# Altium schematic symbol library SCH - MCU - SI LABS - SI LABS EFM32HG210F32 32-PIN QFN 6X6.SchLib: 1 symbol
Pins are listed as number, name and electrical type; pins without a type are passive.

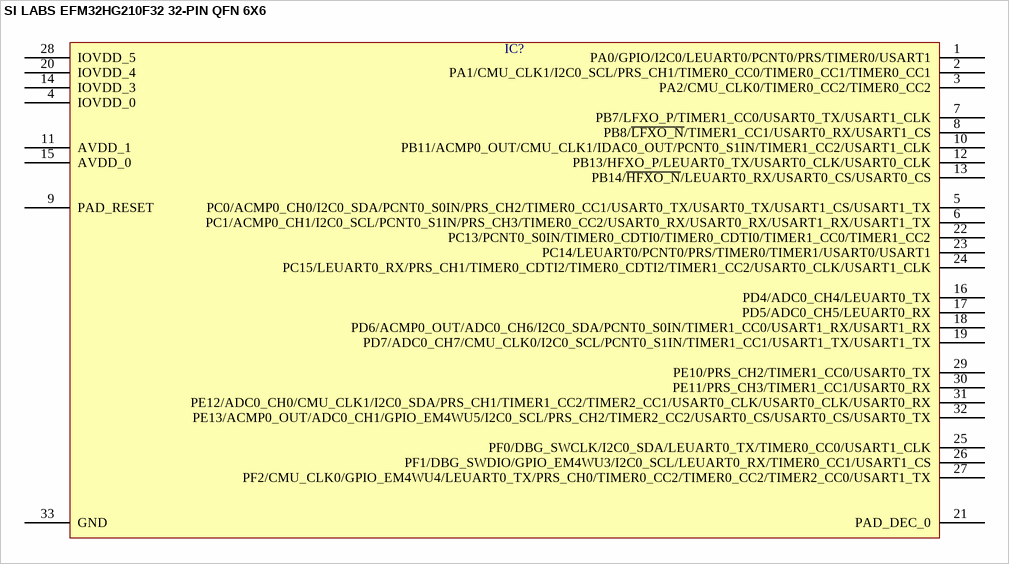
[diagram p0: symbol SI LABS EFM32HG210F32 32-PIN QFN 6X6]

## SI LABS EFM32HG210F32 32-PIN QFN 6X6
designator IC?  (value not drawn)
pins: 1 PA0/GPIO/I2C0/LEUART0/PCNT0/PRS/TIMER0/USART1, 2 PA1/CMU_CLK1/I2C0_SCL/PRS_CH1/TIMER0_CC0/TIMER0_CC1/TIMER0_CC1, 3 PA2/CMU_CLK0/TIMER0_CC2/TIMER0_CC2, 4 IOVDD_0, 5 PC0/ACMP0_CH0/I2C0_SDA/PCNT0_S0IN/PRS_CH2/TIMER0_CC1/USART0_TX/USART0_TX/USART1_CS/USART1_TX, 6 PC1/ACMP0_CH1/I2C0_SCL/PCNT0_S1IN/PRS_CH3/TIMER0_CC2/USART0_RX/USART0_RX/USART1_RX/USART1_TX, 7 PB7/LFXO_P/TIMER1_CC0/USART0_TX/USART1_CLK, 8 PB8/~{LFXO_N}/TIMER1_CC1/USART0_RX/USART1_CS, 9 PAD_RESET, 10 PB11/ACMP0_OUT/CMU_CLK1/IDAC0_OUT/PCNT0_S1IN/TIMER1_CC2/USART1_CLK, 11 AVDD_1, 12 PB13/HFXO_P/LEUART0_TX/USART0_CLK/USART0_CLK, 13 PB14/~{HFXO_N}/LEUART0_RX/USART0_CS/USART0_CS, 14 IOVDD_3, 15 AVDD_0, 16 PD4/ADC0_CH4/LEUART0_TX, 17 PD5/ADC0_CH5/LEUART0_RX, 18 PD6/ACMP0_OUT/ADC0_CH6/I2C0_SDA/PCNT0_S0IN/TIMER1_CC0/USART1_RX/USART1_RX, 19 PD7/ADC0_CH7/CMU_CLK0/I2C0_SCL/PCNT0_S1IN/TIMER1_CC1/USART1_TX/USART1_TX, 20 IOVDD_4, 21 PAD_DEC_0, 22 PC13/PCNT0_S0IN/TIMER0_CDTI0/TIMER0_CDTI0/TIMER1_CC0/TIMER1_CC2, 23 PC14/LEUART0/PCNT0/PRS/TIMER0/TIMER1/USART0/USART1, 24 PC15/LEUART0_RX/PRS_CH1/TIMER0_CDTI2/TIMER0_CDTI2/TIMER1_CC2/USART0_CLK/USART1_CLK, 25 PF0/DBG_SWCLK/I2C0_SDA/LEUART0_TX/TIMER0_CC0/USART1_CLK, 26 PF1/DBG_SWDIO/GPIO_EM4WU3/I2C0_SCL/LEUART0_RX/TIMER0_CC1/USART1_CS, 27 PF2/CMU_CLK0/GPIO_EM4WU4/LEUART0_TX/PRS_CH0/TIMER0_CC2/TIMER0_CC2/TIMER2_CC0/USART1_TX, 28 IOVDD_5, 29 PE10/PRS_CH2/TIMER1_CC0/USART0_TX, 30 PE11/PRS_CH3/TIMER1_CC1/USART0_RX, 31 PE12/ADC0_CH0/CMU_CLK1/I2C0_SDA/PRS_CH1/TIMER1_CC2/TIMER2_CC1/USART0_CLK/USART0_CLK/USART0_RX, 32 PE13/ACMP0_OUT/ADC0_CH1/GPIO_EM4WU5/I2C0_SCL/PRS_CH2/TIMER2_CC2/USART0_CS/USART0_CS/USART0_TX, 33 GND